# Altium footprint library Molex 1054051112.PcbLib: 1 footprints
Each footprint in its own frame and in the unit in brackets; x right, y up, seen from the top. Pads: shape width x height; smd on the part's side, far side on the other; paste and mask are expansions set on the pad; w line width, h text height; cw(c..) or ccw(c..) is an arc to the next point about the centre after c.
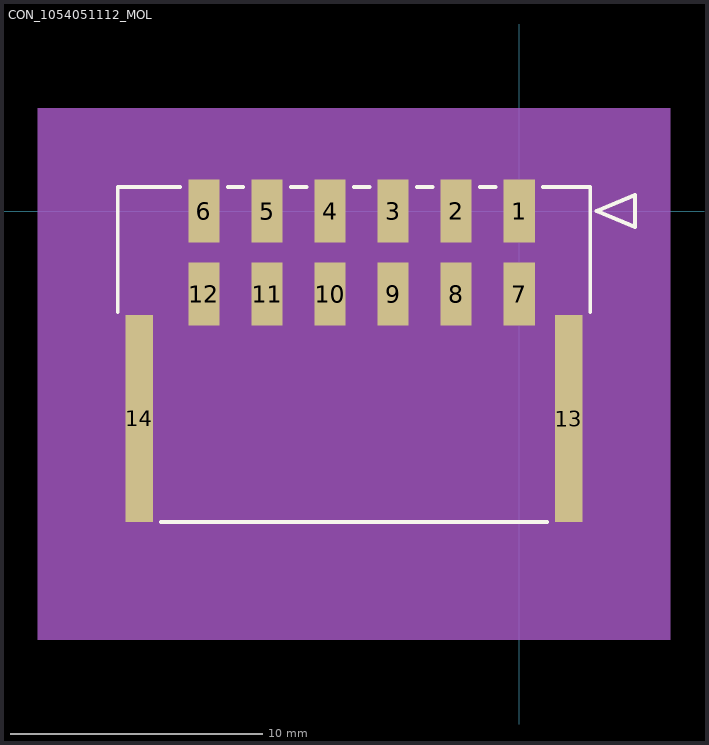
[diagram p0: the footprint, top view; thin cyan lines are the x and y axes]

## CON_1054051112_MOL [mm]
pads (14):
  rect 1.24x2.5 smd paste+0 mask+0.076: 1(0,0) 2(-2.5,0) 3(-5,0) 4(-7.5,0) 5(-10,0) 6(-12.5,0) 7(0,-3.3) 8(-2.5,-3.3) 9(-5,-3.3) 10(-7.5,-3.3) 11(-10,-3.3) 12(-12.5,-3.3)
  rect 1.1x8.2 smd paste+0 mask+0.076: 13(1.97,-8.23) 14(-15.07,-8.23)
Top Overlay:
  lines w0.152: -15.92,-4.019 -15.92,0.95 -13.44,0.95 ; -14.2,-12.33 1.1,-12.33 ; -11.56,0.95 -10.94,0.95 ; -9.06,0.95 -8.44,0.95 ; -6.56,0.95 -5.94,0.95 ; -4.06,0.95 -3.44,0.95 ; -1.56,0.95 -0.94,0.95 ; 0.94,0.95 2.82,0.95 2.82,-4.019 ; 3.074,0 4.598,-0.635 4.598,0.635 3.074,0
Mechanical 5:
  region: -19.095,4.075 5.995,4.075 5.995,-17.005 -19.095,-17.005
Mechanical 13:
  lines w0.127: -15.92,-13.83 -15.92,0.9 2.82,0.9 2.82,-13.83 -15.92,-13.83 ; 3.074,0 4.598,-0.635 4.598,0.635 3.074,0
Mechanical 15:
  region: 4.09,2.17 -17.19,2.17 -17.19,-15.1 4.09,-15.1
  lines w0.127: -17.19,-15.1 4.09,-15.1 4.09,2.17 -17.19,2.17 -17.19,-15.1
3D body: height 0.25, standoff 0, extent 0,0 0.254,0.254